# Altium schematic symbol library lib.SchLib: 35 symbols
Pins are listed as number, name and electrical type; pins without a type are passive.

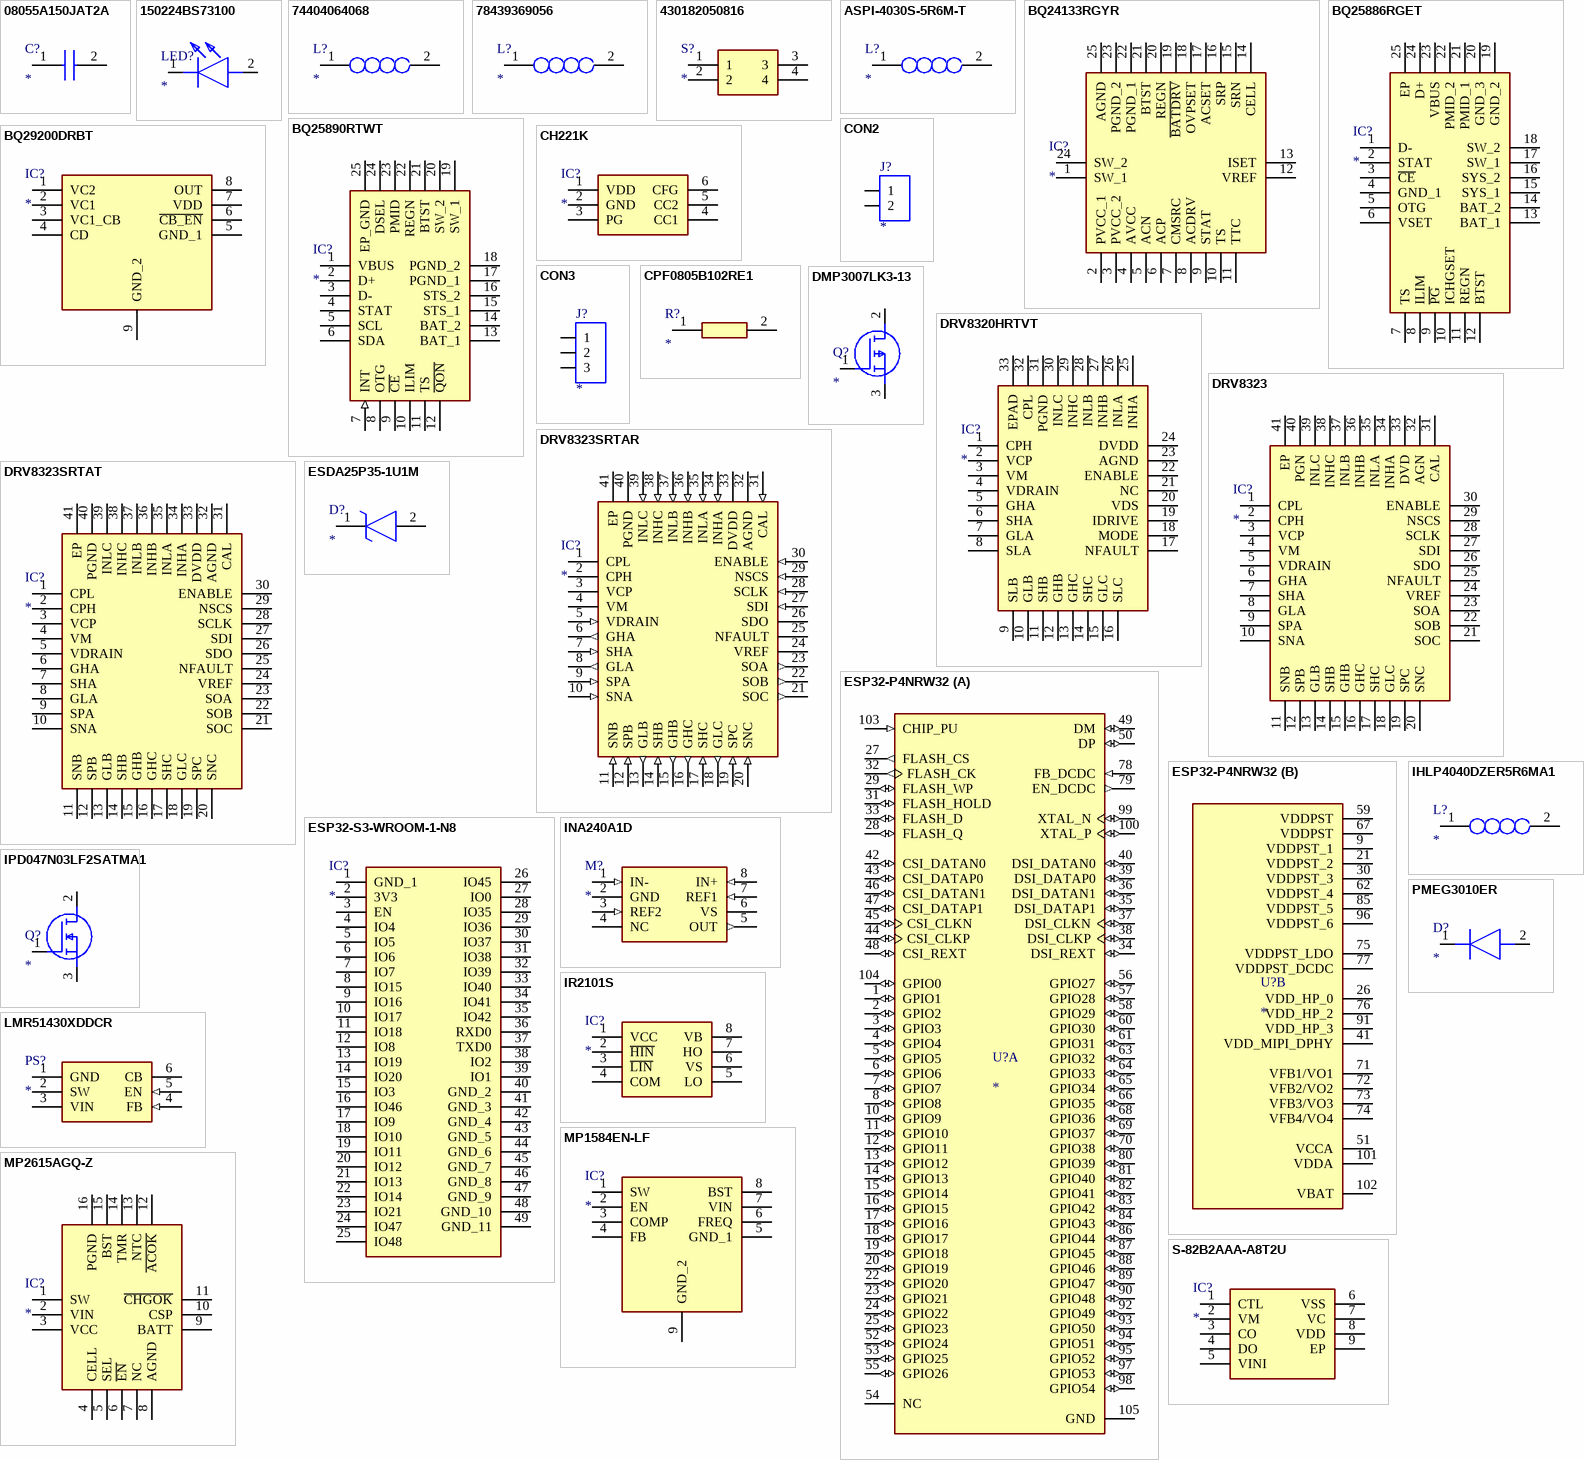
[diagram p0: symbols 08055A150JAT2A to S-82B2AAA-A8T2U]

## 08055A150JAT2A
designator C?
Capacitor; Manufacturer_Name: Kyocera AVX; Manufacturer_Part_Number: 08055A150JAT2A; Datasheet Link: https://componentsearchengine.com/Datasheets/1/06031A100FAT2A.pdf; Height: 0.94mm; Mouser Part Number: 581-08055A150J; Mouser Price/Stock: https://www.mouser.co.uk/ProductDetail/AVX/08055A150JAT2A?qs=pZVDklL%2Fs8hiEua37sqbaA%3D%3D; Arrow Part Number: 08055A150JAT2A; Arrow Price/Stock: https://www.arrow.com/en/products/08055a150jat2a/avx?region=nac
footprint CAPC2012X94N
pins: 1, 2

## 150224BS73100
designator LED?
LED; Manufacturer_Name: Wurth Elektronik; Manufacturer_Part_Number: 150224BS73100; Datasheet Link: https://www.we-online.com/components/products/datasheet/150224BS73100.pdf; Height: 1.41mm; Mouser Part Number: 710-150224BS73100; Mouser Price/Stock: https://www.mouser.co.uk/ProductDetail/Wurth-Elektronik/150224BS73100?qs=5aG0NVq1C4w%2FjMuF9nAPXA%3D%3D
footprint 150224BS73100
pins: 1 K, 2 A

## 74404064068
designator L?
Inductor; Manufacturer_Name: Wurth Elektronik; Manufacturer_Part_Number: 74404064068; Datasheet Link: https://katalog.we-online.com/pbs/datasheet/74404064068.pdf; Height: 4.5mm; Mouser Part Number: 710-74404064068; Mouser Price/Stock: https://www.mouser.co.uk/ProductDetail/Wurth-Elektronik/74404064068?qs=Zt3UNFD9mQgMbZzq9pg0zg%3D%3D
footprint INDPM6060X450N
pins: 1, 2

## 78439369056
designator L?
Inductor; Manufacturer_Name: Wurth Elektronik; Manufacturer_Part_Number: 78439369056; Datasheet Link: https://www.we-online.com/components/products/datasheet/78439369056.pdf; Height: 9.1mm; Mouser Part Number: 710-78439369056; Mouser Price/Stock: https://www.mouser.co.uk/ProductDetail/Wurth-Elektronik/78439369056?qs=Znm5pLBrcAL0DUqF9u1nwA%3D%3D
footprint 78439369056
pins: 1, 2

## 430182050816
designator S?
Switch; Manufacturer_Name: Wurth Elektronik; Manufacturer_Part_Number: 430182050816; Datasheet Link: http://katalog.we-online.de/em/datasheet/4301x2xxx8x6.pdf; Mouser Part Number: 710-430182050816; Mouser Price/Stock: https://www.mouser.co.uk/ProductDetail/Wurth-Elektronik/430182050816?qs=wr8lucFkNMUyle0jQPgWGw%3D%3D
footprint 430182070816
pins: 1, 2, 3, 4

## ASPI-4030S-5R6M-T
designator L?
Inductor; Manufacturer_Name: ABRACON; Manufacturer_Part_Number: ASPI-4030S-5R6M-T; Datasheet Link: https://abracon.com/Magnetics/power/ASPI-4030S.pdf; Height: 3mm; Mouser Part Number: 815-ASPI-4030S-5R6MT; Mouser Price/Stock: https://www.mouser.co.uk/ProductDetail/ABRACON/ASPI-4030S-5R6M-T?qs=BLmuIjeT3qEs6vBfg%2FqMFg%3D%3D
footprint ASPI-4030S
pins: 1, 2

## BQ24133RGYR
designator IC?
Integrated Circuit; Manufacturer_Name: Texas Instruments; Manufacturer_Part_Number: BQ24133RGYR; Datasheet Link: http://www.ti.com/lit/gpn/BQ24133; Height: 1mm; Mouser Part Number: 595-BQ24133RGYR; Mouser Price/Stock: https://www.mouser.co.uk/ProductDetail/Texas-Instruments/BQ24133RGYR?qs=O1HRStiETChtddIVJFsUHw%3D%3D; Arrow Part Number: BQ24133RGYR; Arrow Price/Stock: https://www.arrow.com/en/products/bq24133rgyr/texas-instruments?region=nac
footprint BQ24133RGYR
pins: 1 SW_1, 2 PVCC_1, 3 PVCC_2, 4 AVCC, 5 ACN, 6 ACP, 7 CMSRC, 8 ACDRV, 9 STAT, 10 TS, 11 TTC, 12 VREF, 13 ISET, 14 CELL, 15 SRN, 16 SRP, 17 ACSET, 18 OVPSET, 19 ~{BATDRV}, 20 REGN, 21 BTST, 22 PGND_1, 23 PGND_2, 24 SW_2, 25 AGND

## BQ25886RGET
designator IC?
Integrated Circuit; Manufacturer_Name: Texas Instruments; Manufacturer_Part_Number: BQ25886RGET; Datasheet Link: http://www.ti.com/lit/gpn/BQ25886; Height: 1mm; Mouser Part Number: 595-BQ25886RGET; Mouser Price/Stock: https://www.mouser.co.uk/ProductDetail/Texas-Instruments/BQ25886RGET?qs=mAH9sUMRCtvfsGIkQAOlYg%3D%3D; Arrow Part Number: BQ25886RGET; Arrow Price/Stock: https://www.arrow.com/en/products/bq25886rget/texas-instruments?region=nac
footprint QFN50P400X400X100-25N-D
pins: 1 D-, 2 STAT, 3 ~{CE}, 4 GND_1, 5 OTG, 6 VSET, 7 TS, 8 ILIM, 9 ~{PG}, 10 ICHGSET, 11 REGN, 12 BTST, 13 BAT_1, 14 BAT_2, 15 SYS_1, 16 SYS_2, 17 SW_1, 18 SW_2, 19 GND_2, 20 GND_3, 21 PMID_1, 22 PMID_2, 23 VBUS, 24 D+, 25 EP

## BQ25890RTWT
designator IC?
Integrated Circuit; Manufacturer_Name: Texas Instruments; Manufacturer_Part_Number: BQ25890RTWT; Datasheet Link: http://www.ti.com/lit/ds/symlink/bq25890.pdf; Height: 0.8mm; Mouser Part Number: 595-BQ25890RTWT; Mouser Price/Stock: https://www.mouser.co.uk/ProductDetail/Texas-Instruments/BQ25890RTWT?qs=jpHf3Ogds1zyzntql9Zz5A%3D%3D; Arrow Part Number: BQ25890RTWT; Arrow Price/Stock: https://www.arrow.com/en/products/bq25890rtwt/texas-instruments?region=nac
footprint QFN50P400X400X80-25N-D
pins: 1 VBUS, 2 D+, 3 D-, 4 STAT, 5 SCL, 6 SDA, 7 INT (in), 8 OTG, 9 ~{CE}, 10 ILIM, 11 TS, 12 ~{QON}, 13 BAT_1, 14 BAT_2, 15 STS_1, 16 STS_2, 17 PGND_1 (power), 18 PGND_2 (power), 19 SW_1, 20 SW_2, 21 BTST, 22 REGN, 23 PMID, 24 DSEL, 25 EP_GND (power)

## BQ29200DRBT
designator IC?
Integrated Circuit; Manufacturer_Name: Texas Instruments; Manufacturer_Part_Number: BQ29200DRBT; Description: Voltage Protection with Automatic Cell Balance For 2-Cell Li-Ion Batteries; Datasheet Link: http://www.ti.com/lit/ds/symlink/bq29200.pdf; Height: 1mm; Mouser Part Number: 595-BQ29200DRBT; Mouser Price/Stock: https://www.mouser.co.uk/ProductDetail/Texas-Instruments/BQ29200DRBT?qs=hEBn5lgDlCoXGMNHcYEAng%3D%3D; Arrow Part Number: BQ29200DRBT; Arrow Price/Stock: https://www.arrow.com/en/products/bq29200drbt/texas-instruments?region=nac
footprint SON65P300X300X100-9N-D
pins: 1 VC2, 2 VC1, 3 VC1_CB, 4 CD, 5 GND_1, 6 ~{CB_EN}, 7 VDD, 8 OUT, 9 GND_2

## CH221K
designator IC?
Integrated Circuit; Manufacturer_Name: WCH; Manufacturer_Part_Number: CH221K; Datasheet Link: https://akizukidenshi.com/download/ds/wch/CH224.pdf; Height: 1.2mm
footprint SOT95P280X120-6N
pins: 1 VDD, 2 GND, 3 PG, 4 CC1, 5 CC2, 6 CFG

## CON2
designator J?
Stecker
footprint SIP-2
footprint KL-2
footprint POWER-2
pins: 1, 2

## CON3
designator J?
Stecker
footprint Sip-3
footprint KL-3
pins: 1, 2, 3

## CPF0805B102RE1
designator R?
Resistor; Manufacturer_Name: TE Connectivity; Manufacturer_Part_Number: CPF0805B102RE1; Datasheet Link: http://docs-europe.electrocomponents.com/webdocs/13d1/0900766b813d116f.pdf; Height: 0.65mm
footprint RESC2012X65N
pins: 1, 2

## DMP3007LK3-13
designator Q?
MOSFET (P-Channel); Manufacturer_Name: Diodes Incorporated; Manufacturer_Part_Number: DMP3007LK3-13; Datasheet Link: https://www.diodes.com/assets/Datasheets/DMP3007LK3.pdf; Height: 2.39mm; Mouser Part Number: 621-DMP3007LK3-13; Mouser Price/Stock: https://www.mouser.co.uk/ProductDetail/Diodes-Incorporated/DMP3007LK3-13?qs=17u8i%2FzlE8%252BiIxnE0yV1ZQ%3D%3D
footprint DMP3007LK313
pins: 1 G, 2 D, 3 S

## DRV8320HRTVT
designator IC?
Integrated Circuit; Manufacturer_Name: Texas Instruments; Manufacturer_Part_Number: DRV8320HRTVT; Datasheet Link: http://www.ti.com/lit/gpn/DRV8320; Height: 0.8mm; Mouser Part Number: 595-DRV8320HRTVT; Mouser Price/Stock: https://www.mouser.co.uk/ProductDetail/Texas-Instruments/DRV8320HRTVT?qs=u4fy%2FsgLU9P2nuZLu%252BfK3w%3D%3D; Arrow Part Number: DRV8320HRTVT; Arrow Price/Stock: null?region=nac
footprint QFN50P500X500X80-33N-D
pins: 1 CPH, 2 VCP, 3 VM, 4 VDRAIN, 5 GHA, 6 SHA, 7 GLA, 8 SLA, 9 SLB, 10 GLB, 11 SHB, 12 GHB, 13 GHC, 14 SHC, 15 GLC, 16 SLC, 17 NFAULT, 18 MODE, 19 IDRIVE, 20 VDS, 21 NC, 22 ENABLE, 23 AGND, 24 DVDD, 25 INHA, 26 INLA, 27 INHB, 28 INLB, 29 INHC, 30 INLC, 31 PGND, 32 CPL, 33 EPAD

## DRV8323
designator IC?
Integrated Circuit; Manufacturer_Name: Texas Instruments; Manufacturer_Part_Number: DRV8323; Datasheet Link: https://www.ti.com/lit/ds/symlink/drv8323.pdf?ts=1615227518000&ref_url=https%253A%252F%252Fwww.google.com%252F; Height: 0.8mm
footprint QFN50P600X600X80-41N-D
pins: 1 CPL, 2 CPH, 3 VCP, 4 VM, 5 VDRAIN, 6 GHA, 7 SHA, 8 GLA, 9 SPA, 10 SNA, 11 SNB, 12 SPB, 13 GLB, 14 SHB, 15 GHB, 16 GHC, 17 SHC, 18 GLC, 19 SPC, 20 SNC, 21 SOC, 22 SOB, 23 SOA, 24 VREF, 25 NFAULT, 26 SDO, 27 SDI, 28 SCLK, 29 NSCS, 30 ENABLE, 31 CAL, 32 AGN, 33 DVD, 34 INHA, 35 INLA, 36 INHB, 37 INLB, 38 INHC, 39 INLC, 40 PGN, 41 EP

## DRV8323SRTAR
designator IC?
Integrated Circuit; Manufacturer_Name: Texas Instruments; Manufacturer_Part_Number: DRV8323SRTAR; Datasheet Link: http://www.ti.com/lit/ds/symlink/drv8323.pdf; Height: 0.8mm; Mouser Part Number: 595-DRV8323SRTAR; Mouser Price/Stock: https://www.mouser.co.uk/ProductDetail/Texas-Instruments/DRV8323SRTAR?qs=u4fy%2FsgLU9P2gpPTX6mffg%3D%3D; Arrow Part Number: DRV8323SRTAR; Arrow Price/Stock: https://www.arrow.com/en/products/drv8323srtar/texas-instruments?utm_currency=USD&region=nac
footprint QFN50P600X600X80-41N-D
pins: 1 CPL (power), 2 CPH (power), 3 VCP (power), 4 VM (power), 5 VDRAIN (in), 6 GHA (out), 7 SHA (in), 8 GLA (out), 9 SPA (in), 10 SNA (in), 11 SNB (in), 12 SPB (in), 13 GLB (out), 14 SHB (in), 15 GHB (out), 16 GHC (out), 17 SHC (in), 18 GLC (out), 19 SPC (in), 20 SNC (in), 21 SOC (out), 22 SOB (out), 23 SOA (out), 24 VREF (power), 25 NFAULT, 26 SDO, 27 SDI (in), 28 SCLK (in), 29 NSCS (in), 30 ENABLE (in), 31 CAL (in), 32 AGND (power), 33 DVDD (power), 34 INHA (in), 35 INLA (in), 36 INHB (in), 37 INLB (in), 38 INHC (in), 39 INLC (in), 40 PGND (power), 41 EP (power)

## DRV8323SRTAT
designator IC?
Integrated Circuit; Manufacturer_Name: Texas Instruments; Manufacturer_Part_Number: DRV8323SRTAT; Datasheet Link: https://www.ti.com/lit/ds/symlink/drv8323.pdf?ts=1609911265927&ref_url=https%253A%252F%252Fwww.ti.com%252Fstore%252Fti%252Fen%252Fp%252Fproduct%252F%253Fp%253DDRV8323SRTAT%2526keyMatch%253DDRV8323SRTAT%2526tisearch%253DSearch-EN-everything%2526usecase%253; Height: 0.8mm; Mouser Part Number: 595-DRV8323SRTAT; Mouser Price/Stock: https://www.mouser.co.uk/ProductDetail/Texas-Instruments/DRV8323SRTAT?qs=u4fy%2FsgLU9OqM%2F3jJJLuvA%3D%3D; Arrow Part Number: DRV8323SRTAT; Arrow Price/Stock: https://www.arrow.com/en/products/drv8323srtat/texas-instruments?utm_currency=USD&region=nac
footprint QFN50P600X600X80-41N-D
pins: 1 CPL, 2 CPH, 3 VCP, 4 VM, 5 VDRAIN, 6 GHA, 7 SHA, 8 GLA, 9 SPA, 10 SNA, 11 SNB, 12 SPB, 13 GLB, 14 SHB, 15 GHB, 16 GHC, 17 SHC, 18 GLC, 19 SPC, 20 SNC, 21 SOC, 22 SOB, 23 SOA, 24 VREF, 25 NFAULT, 26 SDO, 27 SDI, 28 SCLK, 29 NSCS, 30 ENABLE, 31 CAL, 32 AGND, 33 DVDD, 34 INHA, 35 INLA, 36 INHB, 37 INLB, 38 INHC, 39 INLC, 40 PGND, 41 EP

## ESDA25P35-1U1M
designator D?
TVS Diode (Uni-directional); Manufacturer_Name: STMicroelectronics; Manufacturer_Part_Number: ESDA25P35-1U1M; Datasheet Link: https://www.st.com/resource/en/datasheet/esda25p35-1u1m.pdf; Height: 0.6mm; Mouser Part Number: 511-ESDA25P35-1U1M; Mouser Price/Stock: https://www.mouser.co.uk/ProductDetail/STMicroelectronics/ESDA25P35-1U1M?qs=aVyJF2WnouQUWqgNP85ZrA%3D%3D; Arrow Part Number: ESDA25P35-1U1M; Arrow Price/Stock: https://www.arrow.com/en/products/esda25p35-1u1m/stmicroelectronics?utm_currency=USD&region=europe
footprint ESDA25P351U1M
pins: 1 K, 2 A

## ESP32-P4NRW32
designator U?
MP: ESP32-P4NRW32; Package: None; Price: None; Value: *; Availability: Unavailable
footprint IC_ESP32-P4NRW32
part A pins: 1 GPIO1 (io), 2 GPIO2 (io), 3 GPIO3 (io), 4 GPIO4 (io), 5 GPIO5 (io), 6 GPIO6 (io), 7 GPIO7 (io), 8 GPIO8 (io), 10 GPIO9 (io), 11 GPIO10 (io), 12 GPIO11 (io), 13 GPIO12 (io), 14 GPIO13 (io), 15 GPIO14 (io), 16 GPIO15 (io), 17 GPIO16 (io), 18 GPIO17 (io), 19 GPIO18 (io), 20 GPIO19 (io), 22 GPIO20 (io), 23 GPIO21 (io), 24 GPIO22 (io), 25 GPIO23 (io), 27 FLASH_CS (out), 28 FLASH_Q (io), 29 FLASH_WP (io), 31 FLASH_HOLD (io), 32 FLASH_CK (out), 33 FLASH_D (io), 34 DSI_REXT (io), 35 DSI_DATAP1 (io), 36 DSI_DATAN1 (io), 37 DSI_CLKN (io), 38 DSI_CLKP (io), 39 DSI_DATAP0 (io), 40 DSI_DATAN0 (io), 42 CSI_DATAN0 (io), 43 CSI_DATAP0 (io), 44 CSI_CLKP (io), 45 CSI_CLKN (io), 46 CSI_DATAN1 (io), 47 CSI_DATAP1 (io), 48 CSI_REXT (io), 49 DM (io), 50 DP (io), 52 GPIO24 (io), 53 GPIO25 (io), 54 NC, 55 GPIO26 (io), 56 GPIO27 (io), 57 GPIO28 (io), 58 GPIO29 (io), 60 GPIO30 (io), 61 GPIO31 (io), 63 GPIO32 (io), 64 GPIO33 (io), 65 GPIO34 (io), 66 GPIO35 (io), 68 GPIO36 (io), 69 GPIO37 (io), 70 GPIO38 (io), 78 FB_DCDC (in), 79 EN_DCDC (out), 80 GPIO39 (io), 81 GPIO40 (io), 82 GPIO41 (io), 83 GPIO42 (io), 84 GPIO43 (io), 86 GPIO44 (io), 87 GPIO45 (io), 88 GPIO46 (io), 89 GPIO47 (io), 90 GPIO48 (io), 92 GPIO49 (io), 93 GPIO50 (io), 94 GPIO51 (io), 95 GPIO52 (io), 97 GPIO53 (io), 98 GPIO54 (io), 99 XTAL_N (io), 100 XTAL_P (io), 103 CHIP_PU (in), 104 GPIO0 (io), 105 GND (power)
part B pins: 9 VDDPST_1 (power), 21 VDDPST_2 (power), 26 VDD_HP_0 (power), 30 VDDPST_3 (power), 41 VDD_MIPI_DPHY (power), 51 VCCA (power), 59 VDDPST (power), 62 VDDPST_4 (power), 67 VDDPST (power), 71 VFB1/VO1 (power), 72 VFB2/VO2 (power), 73 VFB3/VO3 (power), 74 VFB4/VO4 (power), 75 VDDPST_LDO (power), 76 VDD_HP_2 (power), 77 VDDPST_DCDC (power), 85 VDDPST_5 (power), 91 VDD_HP_3 (power), 96 VDDPST_6 (power), 101 VDDA (power), 102 VBAT (power)

## ESP32-S3-WROOM-1-N8
designator IC?
Integrated Circuit; Manufacturer_Name: Espressif Systems; Manufacturer_Part_Number: ESP32-S3-WROOM-1-N8; Datasheet Link: https://www.espressif.com/sites/default/files/documentation/esp32-s3-wroom-1_wroom-1u_datasheet_en.pdf; Height: 3.25mm; Mouser Part Number: 356-ESP32-S3WROOM1N8; Mouser Price/Stock: https://www.mouser.co.uk/ProductDetail/Espressif-Systems/ESP32-S3-WROOM-1-N8?qs=Wj%2FVkw3K%252BMC1mq0KGPvoSQ%3D%3D
footprint ESP32S3WROOM1N8R2
pins: 1 GND_1, 2 3V3, 3 EN, 4 IO4, 5 IO5, 6 IO6, 7 IO7, 8 IO15, 9 IO16, 10 IO17, 11 IO18, 12 IO8, 13 IO19, 14 IO20, 15 IO3, 16 IO46, 17 IO9, 18 IO10, 19 IO11, 20 IO12, 21 IO13, 22 IO14, 23 IO21, 24 IO47, 25 IO48, 26 IO45, 27 IO0, 28 IO35, 29 IO36, 30 IO37, 31 IO38, 32 IO39, 33 IO40, 34 IO41, 35 IO42, 36 RXD0, 37 TXD0, 38 IO2, 39 IO1, 40 GND_2, 41 GND_3, 42 GND_4, 43 GND_5, 44 GND_6, 45 GND_7, 46 GND_8, 47 GND_9, 48 GND_10, 49 GND_11

## IHLP4040DZER5R6MA1
designator L?
Inductor; Manufacturer_Name: Vishay; Manufacturer_Part_Number: IHLP4040DZER5R6MA1; Datasheet Link: https://www.vishay.com/docs/34245/ihlp-4040dz-a1.pdf; Height: 4mm; Mouser Part Number: 70-IHLP4040DZR5R6MA1; Mouser Price/Stock: https://www.mouser.co.uk/ProductDetail/Vishay-Dale/IHLP4040DZER5R6MA1?qs=ROh%252BA47s9d3zBU7ara8VjQ%3D%3D
footprint INDPM108102X400N
pins: 1, 2

## INA240A1D
designator M?
Motor; Manufacturer_Name: Texas Instruments; Manufacturer_Part_Number: INA240A1D; Datasheet Link: http://www.ti.com/lit/gpn/INA240; Height: 1.75mm; Mouser Part Number: 595-INA240A1D; Mouser Price/Stock: https://www.mouser.co.uk/ProductDetail/Texas-Instruments/INA240A1D?qs=u4fy%2FsgLU9OqCdP7Ou6Gjw%3D%3D; Arrow Part Number: INA240A1D; Arrow Price/Stock: https://www.arrow.com/en/products/ina240a1d/texas-instruments?utm_currency=USD&region=europe
footprint SOIC127P600X175-8N
pins: 1 IN- (in), 2 GND (power), 3 REF2 (in), 4 NC, 5 OUT (out), 6 VS (power), 7 REF1 (in), 8 IN+ (in)

## IPD047N03LF2SATMA1
designator Q?
MOSFET (N-Channel); Manufacturer_Name: Infineon; Manufacturer_Part_Number: IPD047N03LF2SATMA1; Datasheet Link: https://www.infineon.com/cms/en/product/power/mosfet/n-channel/ipd047n03lf2s/; Height: 2.52mm; Mouser Part Number: 726-IPD047N03LF2SATM; Mouser Price/Stock: https://www.mouser.co.uk/ProductDetail/Infineon-Technologies/IPD047N03LF2SATMA1?qs=3vio67wFuYq5Cj1%2F9iYlBQ%3D%3D
footprint IPD047N03LF2SATMA1
pins: 1 G, 2 D, 3 S

## IR2101S
designator IC?
Integrated Circuit; Manufacturer_Name: Infineon; Manufacturer_Part_Number: IR2101S; Datasheet Link: https://pdf1.alldatasheet.com/datasheet-pdf/view/102221/IRF/IR2101S.html; Height: 1.75mm
footprint SOIC127P600X175-8N
pins: 1 VCC, 2 ~{HIN}, 3 ~{LIN}, 4 COM, 5 LO, 6 VS, 7 HO, 8 VB

## LMR51430XDDCR
designator PS?
Power Supply; Manufacturer_Name: Texas Instruments; Manufacturer_Part_Number: LMR51430XDDCR; Datasheet Link: https://www.ti.com/lit/ds/symlink/lmr51430.pdf?HQS=dis-mous-null-mousermode-dsf-pf-null-wwe&ts=1665567212982&ref_url=https%253A%252F%252Fwww.mouser.co.uk%252F; Height: 1.1mm; Mouser Part Number: 595-LMR51430XDDCR; Mouser Price/Stock: https://www.mouser.co.uk/ProductDetail/Texas-Instruments/LMR51430XDDCR?qs=vvQtp7zwQdP8miJIr5Aupg%3D%3D; Arrow Part Number: LMR51430XDDCR; Arrow Price/Stock: https://www.arrow.com/en/products/lmr51430xddcr/texas-instruments?utm_currency=USD&region=nac
footprint SOT95P280X110-6N
pins: 1 GND (power), 2 SW (power), 3 VIN (power), 4 FB (in), 5 EN (in), 6 CB (power)

## MP1584EN-LF
designator IC?
Integrated Circuit; Manufacturer_Name: Monolithic Power Systems (MPS); Manufacturer_Part_Number: MP1584EN-LF; Datasheet Link: https://componentsearchengine.com/Datasheets/1/MP1584EN-LF.pdf; Height: 1.7mm; Mouser Part Number: 946-MP1584ENLF; Mouser Price/Stock: https://www.mouser.co.uk/ProductDetail/Monolithic-Power-Systems-MPS/MP1584EN-LF?qs=rC7bBWoQAAm4rmSVaZr4rw%3D%3D
footprint SOIC127P600X170-9N
pins: 1 SW, 2 EN, 3 COMP, 4 FB, 5 GND_1, 6 FREQ, 7 VIN, 8 BST, 9 GND_2

## MP2615AGQ-Z
designator IC?
Integrated Circuit; Manufacturer_Name: Monolithic Power Systems (MPS); Manufacturer_Part_Number: MP2615AGQ-Z; Datasheet Link: https://www.monolithicpower.com/en/documentview/productdocument/index/version/2/document_type/Datasheet/lang/en/sku/MP2615AGQ-Z/document_id/1433/; Height: 1mm; Mouser Part Number: 946-MP2615AGQ-Z; Mouser Price/Stock: https://www.mouser.co.uk/ProductDetail/Monolithic-Power-Systems-MPS/MP2615AGQ-Z?qs=HiriQ40UqETtGEPnTGZTNQ%3D%3D
footprint MP2615AGQZ
pins: 1 SW, 2 VIN, 3 VCC, 4 CELL, 5 SEL, 6 ~{EN}, 7 NC, 8 AGND, 9 BATT, 10 CSP, 11 ~{CHGOK}, 12 ~{ACOK}, 13 NTC, 14 TMR, 15 BST, 16 PGND

## PMEG3010ER
designator D?
Diode; Manufacturer_Name: Nexperia; Manufacturer_Part_Number: PMEG3010ER; Datasheet Link: https://datasheet.datasheetarchive.com/originals/distributors/Datasheets-NXP/DSANXP010004875.pdf; Height: 1.1mm; Mouser Part Number: N/A; Mouser Price/Stock: https://www.mouser.co.uk/ProductDetail/Nexperia/PMEG3010ER?qs=vHuUswq2%252BswA%252BkrsHFmQzA%3D%3D
footprint SODFL3517X110N
pins: 1 K, 2 A

## S-82B2AAA-A8T2U
designator IC?
Integrated Circuit; Manufacturer_Name: ABLIC Inc.; Manufacturer_Part_Number: S-82B2AAA-A8T2U; Datasheet Link: https://www.ablic.com/en/doc/datasheet/battery_protection/S82B2A_B_E.pdf; Height: 0.4mm; Mouser Part Number: 628-S-82B2AAA-A8T2U; Mouser Price/Stock: https://www.mouser.co.uk/ProductDetail/ABLIC/S-82B2AAA-A8T2U?qs=t7xnP681wgVKFpRRRjY2ng%3D%3D
footprint S82B2AAAA8T2U
pins: 1 CTL, 2 VM, 3 CO, 4 DO, 5 VINI, 6 VSS, 7 VC, 8 VDD, 9 EP

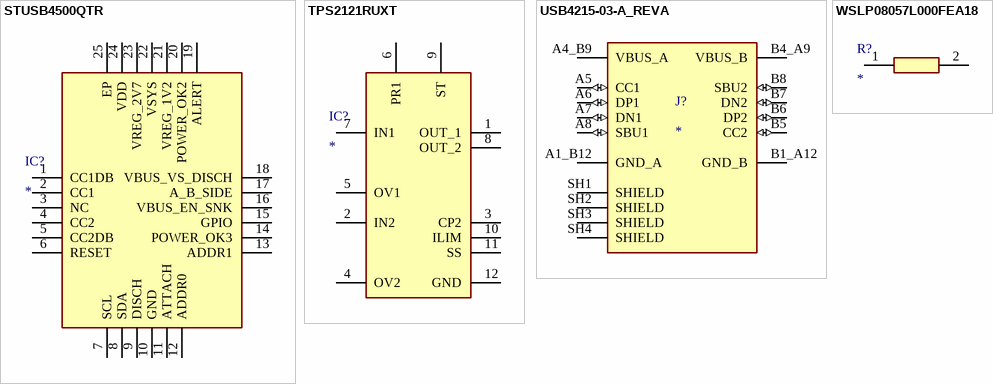
[diagram p1: symbols STUSB4500QTR to WSLP08057L000FEA18]

## STUSB4500QTR
designator IC?
Integrated Circuit; Manufacturer_Name: STMicroelectronics; Manufacturer_Part_Number: STUSB4500QTR; Datasheet Link: https://www.st.com/resource/en/datasheet/stusb4500.pdf; Height: 1mm; Mouser Part Number: 511-STUSB4500QTR; Mouser Price/Stock: https://www.mouser.co.uk/ProductDetail/STMicroelectronics/STUSB4500QTR?qs=wUXugUrL1qyQbYMSzG1ujg%3D%3D; Arrow Part Number: STUSB4500QTR; Arrow Price/Stock: https://www.arrow.com/en/products/stusb4500qtr/stmicroelectronics?utm_currency=USD&region=europe
footprint QFN50P400X400X100-25N-D
pins: 1 CC1DB, 2 CC1, 3 NC, 4 CC2, 5 CC2DB, 6 RESET, 7 SCL, 8 SDA, 9 DISCH, 10 GND, 11 ATTACH, 12 ADDR0, 13 ADDR1, 14 POWER_OK3, 15 GPIO, 16 VBUS_EN_SNK, 17 A_B_SIDE, 18 VBUS_VS_DISCH, 19 ALERT, 20 POWER_OK2, 21 VREG_1V2, 22 VSYS, 23 VREG_2V7, 24 VDD, 25 EP

## TPS2121RUXT
designator IC?
Integrated Circuit; Manufacturer_Name: Texas Instruments; Manufacturer_Part_Number: TPS2121RUXT; Datasheet Link: https://www.arrow.com/en/products/tps2121ruxt/texas-instruments; Height: 1mm; Mouser Part Number: 595-TPS2121RUXT; Mouser Price/Stock: https://www.mouser.co.uk/ProductDetail/Texas-Instruments/TPS2121RUXT?qs=l7cgNqFNU1i6abJCbO5ulQ%3D%3D; Arrow Part Number: TPS2121RUXT; Arrow Price/Stock: https://www.arrow.com/en/products/tps2121ruxt/texas-instruments?utm_currency=USD&region=nac
footprint TPS2121RUXT
pins: 1 OUT_1, 2 IN2, 3 CP2, 4 OV2, 5 OV1, 6 PR1, 7 IN1, 8 OUT_2, 9 ST, 10 ILIM, 11 SS, 12 GND

## USB4215-03-A_REVA
designator J?
USB-C (USB TYPE-C) USB 2.0 Receptacle Connector 24 (16+8 Dummy) Position Surface Mount, Right Angle; Through Hole; MF: Global Connector Technology; MP: USB4215-03-A; SnapEDA_Link: https://www.snapeda.com/parts/USB4215-03-A/Global+Connector+Technology/view-part/?ref=snap; Package: None; Value: *; Check_prices: https://www.snapeda.com/parts/USB4215-03-A/Global+Connector+Technology/view-part/?ref=eda
footprint GCT_USB4215-03-A_REVA
pins: A1_B12 GND_A (power), A4_B9 VBUS_A (power), A5 CC1 (io), A6 DP1 (io), A7 DN1 (io), A8 SBU1 (io), B1_A12 GND_B (power), B4_A9 VBUS_B (power), B5 CC2 (io), B6 DP2 (io), B7 DN2 (io), B8 SBU2 (io), SH1 SHIELD, SH2 SHIELD, SH3 SHIELD, SH4 SHIELD

## WSLP08057L000FEA18
designator R?
Resistor; Manufacturer_Name: Vishay; Manufacturer_Part_Number: WSLP08057L000FEA18; Datasheet Link: https://www.vishay.com/docs/30298/wslp18.pdf; Height: 0.584mm; Mouser Part Number: 71-WSLP08057L000FEA1; Mouser Price/Stock: https://www.mouser.co.uk/ProductDetail/Vishay-Dale/WSLP08057L000FEA18?qs=yAJ577jGV70jP0rOIAdIIA%3D%3D; Arrow Part Number: WSLP08057L000FEA18; Arrow Price/Stock: https://www.arrow.com/en/products/wslp08057l000fea18/vishay?region=nac
footprint RESC2013X58N
pins: 1, 2